# EAGLE library part 691318500006 (library Wuerth_Elektronik_eiCan_Terminal_Blocks_v2.0)
WR-TBL Serie 3185 - 5.08 mm Close Vertical PCB Header with Flanges , 6 Pins
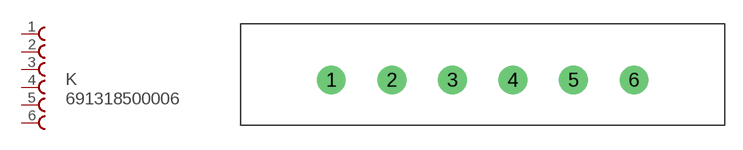
[diagram p111: symbol with the pads of 691318500006; footprint 691318500006]

Designator prefix K

## 691318500006  [691318500006]
1  1  pas
2  2  pas
3  3  pas
4  4  pas
5  5  pas
6  6  pas

## Footprint 691318500006 (pad centres in mm)
WR-TBL Serie 3185 - 5.08 mm Close Vertical PCB Header with Flanges , 6 Pins
drill 1.6 round: 1 -20.32,0; 2 -15.24,0; 3 -10.16,0; 4 -5.08,0; 5 0,0; 6 5.08,0